# EAGLE library part STAGE1PROBEMOUNT (library Stage1ProbeMount)
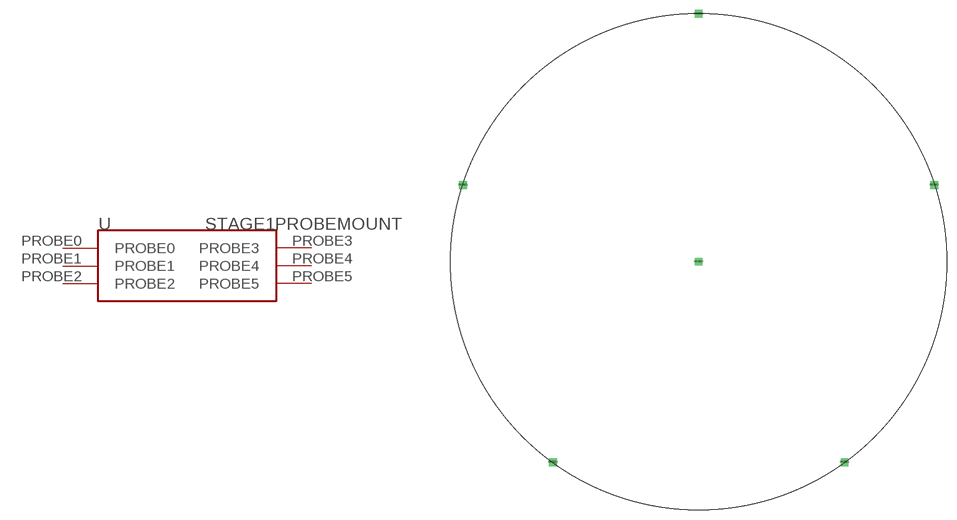
[diagram p0: symbol with the pads of HOLE; footprint HOLE]

Designator prefix U

## STAGE1PROBEMOUNT  [HOLE]
PROBE0  PROBE0
PROBE1  PROBE1
PROBE2  PROBE2
PROBE3  PROBE3
PROBE4  PROBE4
PROBE5  PROBE5

## Footprint HOLE (pad centres in mm)
drill 0.7 square: PROBE0 120,-109; PROBE1 120,-70.9; PROBE2 156.2,-97.2; PROBE3 142.4,-139.8; PROBE4 97.6,-139.8; PROBE5 83.8,-97.2